# Altium footprint library LED.PcbLib: 5 footprints
Each footprint in its own frame and in the unit in brackets; x right, y up, seen from the top. Pads: shape width x height; smd on the part's side, far side on the other; paste and mask are expansions set on the pad; w line width, h text height; cw(c..) or ccw(c..) is an arc to the next point about the centre after c.
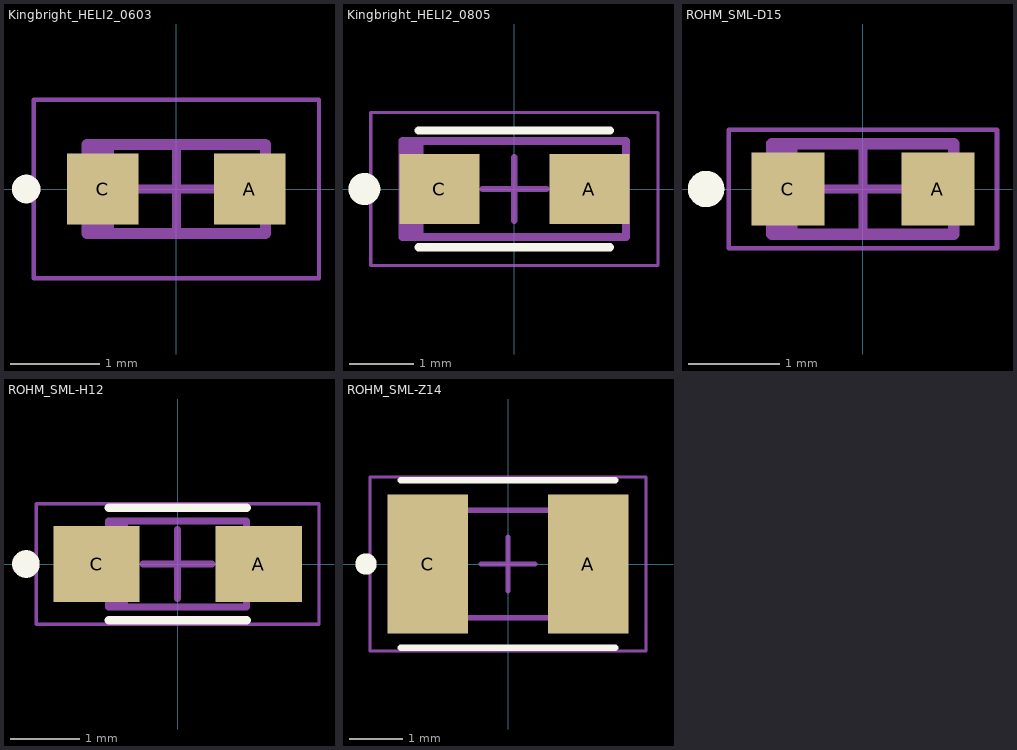
[diagram p0: the footprints below, top view; thin cyan lines are the x and y axes]

## Kingbright_HELI2_0603 [mm] "1.6 x 0.8 mm SMD Chip LED Lamp"
height 0.75
pads (2):
  rect 0.8x0.8 smd mask+0.05: A(0.825,0) C(-0.825,0)
Top Overlay:
  circle w0.16: c-1.685,0 r0.08
Top Assembly:
  region: -1,0.5 -0.7,0.5 -0.7,-0.5 -1,-0.5
  lines w0.127: -1,-0.5 1,-0.5 1,0.5 -1,0.5 -1,-0.5
  text "'.Designator'" at -0.724,-0.068 h0.3
Top Courtyard:
  lines w0.05: -1.6,-1 1.6,-1 1.6,1 -1.6,1 -1.6,-1
  lines w0.1: -0.5,0 0.5,0 ; 0,-0.5 0,0.5
3D body "SML-D15MWT86C.STEP": height 0.56, standoff 0.01, extent -0.8,-0.4 0.8,0.4

## Kingbright_HELI2_0805 [mm] "2.0 x 1.25 mm SMD Chip LED Lamp"
height 0.75
pads (2):
  rect 1.25x1.1 smd mask+0.05: A(1.175,0) C(-1.175,0)
Top Overlay:
  circle w0.3: c-2.35,0 r0.1
  lines w0.127: -1.5,-0.913 1.5,-0.913 ; -1.5,0.914 1.5,0.914
Top Assembly:
  region: -1.725,0.724 -1.425,0.724 -1.425,-0.75 -1.725,-0.75
  lines w0.127: -1.75,-0.75 1.75,-0.75 1.75,0.75 -1.75,0.75 -1.75,-0.75
  text "'.Designator'" at -1.448,-0.136 h0.6
Top Courtyard:
  lines w0.05: -2.25,-1.2 2.25,-1.2 2.25,1.2 -2.25,1.2 -2.25,-1.2
  lines w0.1: -0.5,0 0.5,0 ; 0,-0.5 0,0.5
3D body "APT2012LZGCK--3DModel-STEP-510211.STEP": height 0.76, standoff 0.01, extent -1,-0.625 1,0.625

## ROHM_SML-D15 [mm] "Automotive, Brightness Single Rank, Industry Standard 1608 Size, SMD LED"
height 0.55
pads (2):
  rect 0.8x0.8 smd mask+0.05: A(0.825,0) C(-0.825,0)
Top Overlay:
  circle w0.2: c-1.725,0 r0.1
Top Assembly:
  region: -1.025,0.524 -0.725,0.524 -0.725,-0.476 -1.025,-0.476
  lines w0.127: -1,-0.5 1,-0.5 1,0.5 -1,0.5 -1,-0.5
  text "'.Designator'" at -0.724,-0.068 h0.3
Top Courtyard:
  lines w0.05: -1.475,-0.65 1.475,-0.65 1.475,0.65 -1.475,0.65 -1.475,-0.65
  lines w0.1: -0.5,0 0.5,0 ; 0,-0.5 0,0.5
3D body "SML-D15MWT86C.STEP": height 0.56, standoff 0.01, extent -0.8,-0.4 0.8,0.4

## ROHM_SML-H12 [mm] "Automotive, Molded SMD LED"
height 0.8
pads (2):
  rect 1.25x1.1 smd mask+0.05: A(1.175,0) C(-1.175,0)
Top Overlay:
  circle w0.2: c-2.2,0 r0.1
  lines w0.127: -1,-0.814 1,-0.814 ; -1,0.814 1,0.814
Top Assembly:
  region: -1.025,0.624 -0.725,0.624 -0.725,-0.625 -1.025,-0.625
  lines w0.1: -1,-0.625 -1,0.625 1,0.625 1,-0.625 -1,-0.625
  text "'.Designator'" at -0.724,-0.068 h0.3
Top Courtyard:
  lines w0.05: -2.05,-0.875 2.05,-0.875 2.05,0.875 -2.05,0.875 -2.05,-0.875
  lines w0.1: -0.5,0 0.5,0 ; 0,-0.5 0,0.5
3D body "step_temp.STEP": height 0.78, standoff -0.02, extent -1,-0.625 1,0.625

## ROHM_SML-Z14 [mm] "Automotive, High brightness reflector type, SMD LED"
height 1.9
pads (2):
  rect 1.5x2.6 smd mask+0.05: A(1.5,0) C(-1.5,0)
Top Overlay:
  circle w0.2: c-2.65,0 r0.1
  lines w0.127: -2,-1.564 2,-1.564 ; -2,1.564 2,1.564
Top Assembly:
  region: -2.025,1.024 -1.6,1.024 -1.6,-1 -2.025,-1
  lines w0.1: -2,-1 -2,1 2,1 2,-1 -2,-1
  text "'.Designator'" at -1.448,-0.136 h0.6
Top Courtyard:
  lines w0.05: -2.575,-1.625 -2.575,1.625 2.575,1.625 2.575,-1.625 -2.575,-1.625
  lines w0.1: -0.5,0 0.5,0 ; 0,-0.5 0,0.5
3D body "SMLZ.step": height 1.91, standoff 0.01, extent -1.8,-1.4 1.8,1.4